# Altium schematic symbol library SCH - MCU - STM32 - ST MICROELECTRONICS STM32L476VGYXP WLCSP99.SchLib: 1 symbol
Pins are listed as number, name and electrical type; pins without a type are passive.

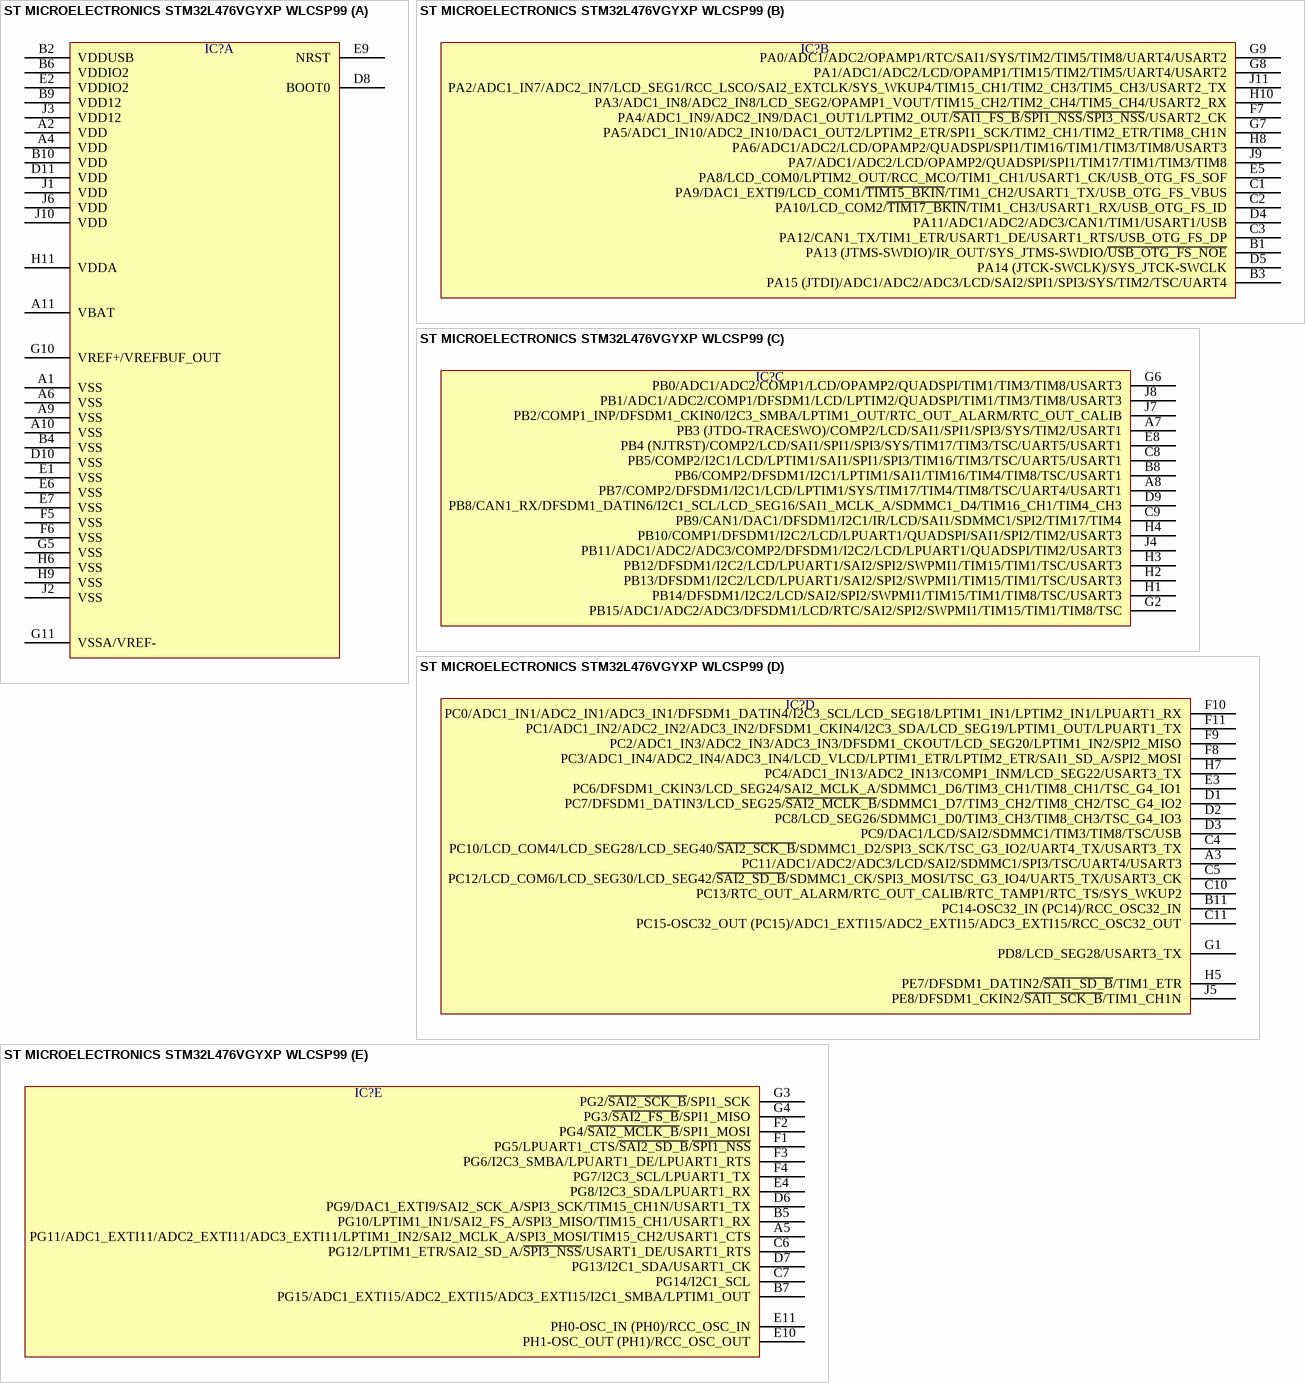
[diagram p0: symbol ST MICROELECTRONICS STM32L476VGYXP WLCSP99]

## ST MICROELECTRONICS STM32L476VGYXP WLCSP99
designator IC?  (value not drawn)
part A pins: A1 VSS, A2 VDD, A4 VDD, A6 VSS, A9 VSS, A10 VSS, A11 VBAT, B2 VDDUSB, B4 VSS, B6 VDDIO2, B9 VDD12, B10 VDD, D8 BOOT0, D10 VSS, D11 VDD, E1 VSS, E2 VDDIO2, E6 VSS, E7 VSS, E9 NRST, F5 VSS, F6 VSS, G5 VSS, G10 VREF+/VREFBUF_OUT, G11 VSSA/VREF-, H6 VSS, H9 VSS, H11 VDDA, J1 VDD, J2 VSS, J3 VDD12, J6 VDD, J10 VDD
part B pins: B1 PA13 (JTMS-SWDIO)/IR_OUT/SYS_JTMS-SWDIO/~{USB_OTG_FS_NOE}, B3 PA15 (JTDI)/ADC1/ADC2/ADC3/LCD/SAI2/SPI1/SPI3/SYS/TIM2/TSC/UART4, C1 PA9/DAC1_EXTI9/LCD_COM1/~{TIM15_BKIN}/TIM1_CH2/USART1_TX/USB_OTG_FS_VBUS, C2 PA10/LCD_COM2/~{TIM17_BKIN}/TIM1_CH3/USART1_RX/USB_OTG_FS_ID, C3 PA12/CAN1_TX/TIM1_ETR/USART1_DE/USART1_RTS/USB_OTG_FS_DP, D4 PA11/ADC1/ADC2/ADC3/CAN1/TIM1/USART1/USB, D5 PA14 (JTCK-SWCLK)/SYS_JTCK-SWCLK, E5 PA8/LCD_COM0/LPTIM2_OUT/RCC_MCO/TIM1_CH1/USART1_CK/USB_OTG_FS_SOF, F7 PA4/ADC1_IN9/ADC2_IN9/DAC1_OUT1/LPTIM2_OUT/~{SAI1_FS_B}/~{SPI1_NSS}/~{SPI3_NSS}/USART2_CK, G7 PA5/ADC1_IN10/ADC2_IN10/DAC1_OUT2/LPTIM2_ETR/SPI1_SCK/TIM2_CH1/TIM2_ETR/TIM8_CH1N, G8 PA1/ADC1/ADC2/LCD/OPAMP1/TIM15/TIM2/TIM5/UART4/USART2, G9 PA0/ADC1/ADC2/OPAMP1/RTC/SAI1/SYS/TIM2/TIM5/TIM8/UART4/USART2, H8 PA6/ADC1/ADC2/LCD/OPAMP2/QUADSPI/SPI1/TIM16/TIM1/TIM3/TIM8/USART3, H10 PA3/ADC1_IN8/ADC2_IN8/LCD_SEG2/OPAMP1_VOUT/TIM15_CH2/TIM2_CH4/TIM5_CH4/USART2_RX, J9 PA7/ADC1/ADC2/LCD/OPAMP2/QUADSPI/SPI1/TIM17/TIM1/TIM3/TIM8, J11 PA2/ADC1_IN7/ADC2_IN7/LCD_SEG1/RCC_LSCO/SAI2_EXTCLK/SYS_WKUP4/TIM15_CH1/TIM2_CH3/TIM5_CH3/USART2_TX
part C pins: A7 PB3 (JTDO-TRACESWO)/COMP2/LCD/SAI1/SPI1/SPI3/SYS/TIM2/USART1, A8 PB7/COMP2/DFSDM1/I2C1/LCD/LPTIM1/SYS/TIM17/TIM4/TIM8/TSC/UART4/USART1, B8 PB6/COMP2/DFSDM1/I2C1/LPTIM1/SAI1/TIM16/TIM4/TIM8/TSC/USART1, C8 PB5/COMP2/I2C1/LCD/LPTIM1/SAI1/SPI1/SPI3/TIM16/TIM3/TSC/UART5/USART1, C9 PB9/CAN1/DAC1/DFSDM1/I2C1/IR/LCD/SAI1/SDMMC1/SPI2/TIM17/TIM4, D9 PB8/CAN1_RX/DFSDM1_DATIN6/I2C1_SCL/LCD_SEG16/SAI1_MCLK_A/SDMMC1_D4/TIM16_CH1/TIM4_CH3, E8 PB4 (NJTRST)/COMP2/LCD/SAI1/SPI1/SPI3/SYS/TIM17/TIM3/TSC/UART5/USART1, G2 PB15/ADC1/ADC2/ADC3/DFSDM1/LCD/RTC/SAI2/SPI2/SWPMI1/TIM15/TIM1/TIM8/TSC, G6 PB0/ADC1/ADC2/COMP1/LCD/OPAMP2/QUADSPI/TIM1/TIM3/TIM8/USART3, H1 PB14/DFSDM1/I2C2/LCD/SAI2/SPI2/SWPMI1/TIM15/TIM1/TIM8/TSC/USART3, H2 PB13/DFSDM1/I2C2/LCD/LPUART1/SAI2/SPI2/SWPMI1/TIM15/TIM1/TSC/USART3, H3 PB12/DFSDM1/I2C2/LCD/LPUART1/SAI2/SPI2/SWPMI1/TIM15/TIM1/TSC/USART3, H4 PB10/COMP1/DFSDM1/I2C2/LCD/LPUART1/QUADSPI/SAI1/SPI2/TIM2/USART3, J4 PB11/ADC1/ADC2/ADC3/COMP2/DFSDM1/I2C2/LCD/LPUART1/QUADSPI/TIM2/USART3, J7 PB2/COMP1_INP/DFSDM1_CKIN0/I2C3_SMBA/LPTIM1_OUT/RTC_OUT_ALARM/RTC_OUT_CALIB, J8 PB1/ADC1/ADC2/COMP1/DFSDM1/LCD/LPTIM2/QUADSPI/TIM1/TIM3/TIM8/USART3
part D pins: A3 PC11/ADC1/ADC2/ADC3/LCD/SAI2/SDMMC1/SPI3/TSC/UART4/USART3, B11 PC14-OSC32_IN (PC14)/RCC_OSC32_IN, C4 PC10/LCD_COM4/LCD_SEG28/LCD_SEG40/~{SAI2_SCK_B}/SDMMC1_D2/SPI3_SCK/TSC_G3_IO2/UART4_TX/USART3_TX, C5 PC12/LCD_COM6/LCD_SEG30/LCD_SEG42/~{SAI2_SD_B}/SDMMC1_CK/SPI3_MOSI/TSC_G3_IO4/UART5_TX/USART3_CK, C10 PC13/RTC_OUT_ALARM/RTC_OUT_CALIB/RTC_TAMP1/RTC_TS/SYS_WKUP2, C11 PC15-OSC32_OUT (PC15)/ADC1_EXTI15/ADC2_EXTI15/ADC3_EXTI15/RCC_OSC32_OUT, D1 PC7/DFSDM1_DATIN3/LCD_SEG25/~{SAI2_MCLK_B}/SDMMC1_D7/TIM3_CH2/TIM8_CH2/TSC_G4_IO2, D2 PC8/LCD_SEG26/SDMMC1_D0/TIM3_CH3/TIM8_CH3/TSC_G4_IO3, D3 PC9/DAC1/LCD/SAI2/SDMMC1/TIM3/TIM8/TSC/USB, E3 PC6/DFSDM1_CKIN3/LCD_SEG24/SAI2_MCLK_A/SDMMC1_D6/TIM3_CH1/TIM8_CH1/TSC_G4_IO1, F8 PC3/ADC1_IN4/ADC2_IN4/ADC3_IN4/LCD_VLCD/LPTIM1_ETR/LPTIM2_ETR/SAI1_SD_A/SPI2_MOSI, F9 PC2/ADC1_IN3/ADC2_IN3/ADC3_IN3/DFSDM1_CKOUT/LCD_SEG20/LPTIM1_IN2/SPI2_MISO, F10 PC0/ADC1_IN1/ADC2_IN1/ADC3_IN1/DFSDM1_DATIN4/I2C3_SCL/LCD_SEG18/LPTIM1_IN1/LPTIM2_IN1/LPUART1_RX, F11 PC1/ADC1_IN2/ADC2_IN2/ADC3_IN2/DFSDM1_CKIN4/I2C3_SDA/LCD_SEG19/LPTIM1_OUT/LPUART1_TX, G1 PD8/LCD_SEG28/USART3_TX, H5 PE7/DFSDM1_DATIN2/~{SAI1_SD_B}/TIM1_ETR, H7 PC4/ADC1_IN13/ADC2_IN13/COMP1_INM/LCD_SEG22/USART3_TX, J5 PE8/DFSDM1_CKIN2/~{SAI1_SCK_B}/TIM1_CH1N
part E pins: A5 PG11/ADC1_EXTI11/ADC2_EXTI11/ADC3_EXTI11/LPTIM1_IN2/SAI2_MCLK_A/SPI3_MOSI/TIM15_CH2/USART1_CTS, B5 PG10/LPTIM1_IN1/SAI2_FS_A/SPI3_MISO/TIM15_CH1/USART1_RX, B7 PG15/ADC1_EXTI15/ADC2_EXTI15/ADC3_EXTI15/I2C1_SMBA/LPTIM1_OUT, C6 PG12/LPTIM1_ETR/SAI2_SD_A/~{SPI3_NSS}/USART1_DE/USART1_RTS, C7 PG14/I2C1_SCL, D6 PG9/DAC1_EXTI9/SAI2_SCK_A/SPI3_SCK/TIM15_CH1N/USART1_TX, D7 PG13/I2C1_SDA/USART1_CK, E4 PG8/I2C3_SDA/LPUART1_RX, E10 PH1-OSC_OUT (PH1)/RCC_OSC_OUT, E11 PH0-OSC_IN (PH0)/RCC_OSC_IN, F1 PG5/LPUART1_CTS/~{SAI2_SD_B}/~{SPI1_NSS}, F2 PG4/~{SAI2_MCLK_B}/SPI1_MOSI, F3 PG6/I2C3_SMBA/LPUART1_DE/LPUART1_RTS, F4 PG7/I2C3_SCL/LPUART1_TX, G3 PG2/~{SAI2_SCK_B}/SPI1_SCK, G4 PG3/~{SAI2_FS_B}/SPI1_MISO